# Altium footprint library MAX2611EUST.PcbLib: 1 footprints
Each footprint in its own frame and in the unit in brackets; x right, y up, seen from the top. Pads: shape width x height; smd on the part's side, far side on the other; paste and mask are expansions set on the pad; w line width, h text height; cw(c..) or ccw(c..) is an arc to the next point about the centre after c.
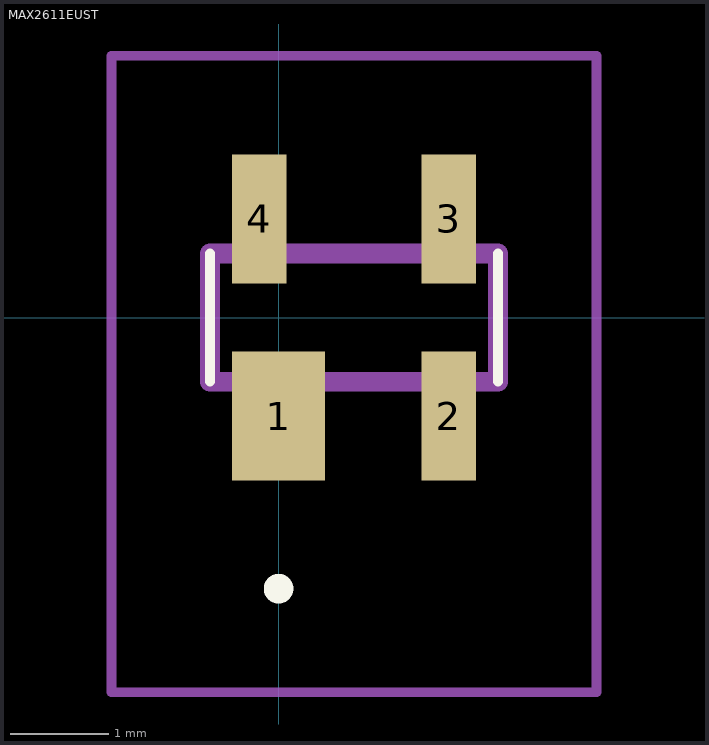
[diagram p0: the footprint, top view; thin cyan lines are the x and y axes]

## MAX2611EUST [mm]
pads (4):
  rect 0.94x1.31 smd: 1(0,-1)
  rect 0.55x1.31 smd: 2(1.725,-1) 3(1.725,1) 4(-0.195,1)
Top Overlay:
  lines w0.1: -0.695,-0.65 -0.695,0.65 ; -0.695,-0.65 -0.695,-0.65 ; -0.695,-0.65 -0.695,0.65 ; -0.695,0.65 -0.695,0.65 ; 2.225,-0.65 2.225,0.65 ; 2.225,-0.65 2.225,-0.65 ; 2.225,-0.65 2.225,0.65 ; 2.225,0.65 2.225,0.65
  lines w0.2: 0,-2.8 0,-2.8 ; 0,-2.8 ccw(c0,-2.75) 0,-2.7 ; 0,-2.8 cw(c0,-2.75) 0,-2.7 ; 0,-2.8 0,-2.8 ; 0,-2.8 ccw(c0,-2.75) 0,-2.7 ; 0,-2.7 0,-2.7
Mechanical 15:
  lines w0.2: -0.695,-0.65 2.225,-0.65 2.225,0.65 -0.695,0.65 -0.695,-0.65
Mechanical 20:
  lines w0.1: -1.695,-3.8 3.225,-3.8 3.225,2.655 -1.695,2.655 -1.695,-3.8